# EAGLE library part MAX31856 (library max31856_libreria)
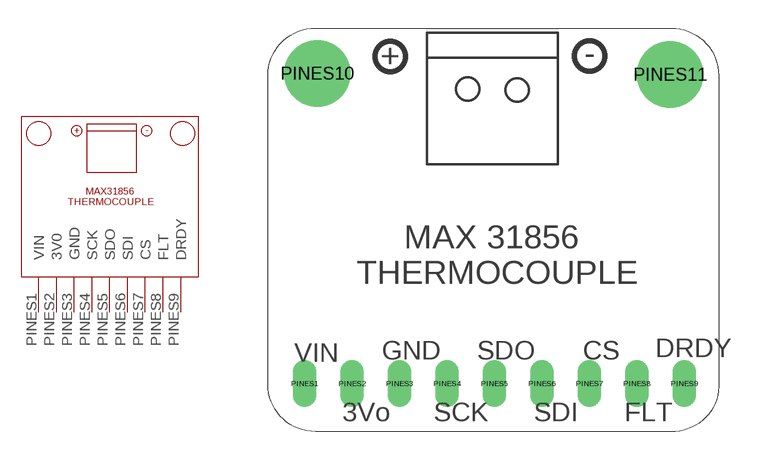
[diagram p0: symbol with the pads of MAX31856; footprint MAX31856]

Designator prefix -

## MAX31856  [MAX31856]
PINES1  VIN
PINES2  3V0
PINES3  GND
PINES4  SCK
PINES5  SDO
PINES6  SDI
PINES7  CS
PINES8  FLT
PINES9  DRDY

## Footprint MAX31856 (pad centres in mm)
drill 0.75 long: PINES1 2.54,2.54; PINES2 5.08,2.54; PINES3 7.62,2.54; PINES4 10.16,2.54; PINES5 12.7,2.54; PINES6 15.24,2.54; PINES7 17.78,2.54; PINES8 20.32,2.54; PINES9 22.86,2.54
drill 2.54 pad 3.556: PINES10 3.232,19.135; PINES11 22.116,19.077